# EAGLE library part BMP388 (library OffsetVentilatorLib)
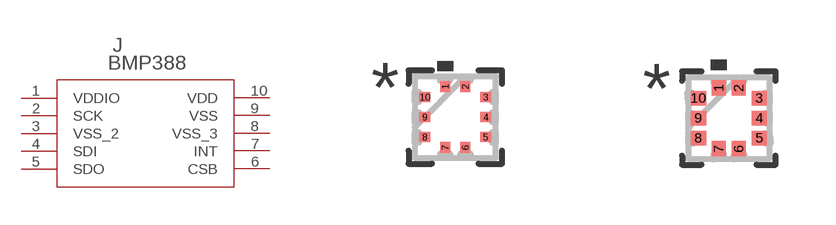
[diagram p0: symbol with the pads of QFN_BMP388; footprints QFN_BMP388, QFN_BMP388-M]

Designator prefix J

## BMP388 (BUILT_BY: EMA_Matt; COPYRIGHT: Copyright (C) 2018 Accelerated Designs. All rights reserved; MANUFACTURER_PART_NUMBER: BMP388; VENDOR: Bosch)  [QFN_BMP388]
1  VDDIO  pwr
2  SCK  pas
3  VSS_2  pas
4  SDI  pas
5  SDO  pas
6  CSB  pas
7  INT  pas
8  VSS_3  pas
9  VSS  pas
10  VDD  pwr

## BMP388QFN_BMP388-M (BUILT_BY: EMA_Matt; COPYRIGHT: Copyright (C) 2018 Accelerated Designs. All rights reserved; MANUFACTURER_PART_NUMBER: BMP388; VENDOR: Bosch)  [QFN_BMP388-M]
Pads as for QFN_BMP388

## BMP388QFN_BMP388-L (BUILT_BY: EMA_Matt; COPYRIGHT: Copyright (C) 2018 Accelerated Designs. All rights reserved; MANUFACTURER_PART_NUMBER: BMP388; VENDOR: Bosch)  [QFN_BMP388-L]
Pads as for QFN_BMP388

## Footprint QFN_BMP388 (pad centres in mm)
smd 0.254 x 0.279: 1 -0.25,0.762; 2 0.25,0.762; 6 0.25,-0.762; 7 -0.25,-0.762
smd 0.279 x 0.254: 3 0.762,0.5; 4 0.762,0; 5 0.762,-0.5; 8 -0.762,-0.5; 9 -0.762,0; 10 -0.762,0.5

## Footprint QFN_BMP388-M (pad centres in mm)
smd 0.356 x 0.381: 1 -0.25,0.762; 2 0.25,0.762; 6 0.25,-0.762; 7 -0.25,-0.762
smd 0.381 x 0.356: 3 0.762,0.5; 4 0.762,0; 5 0.762,-0.5; 8 -0.762,-0.5; 9 -0.762,0; 10 -0.762,0.5

## Footprint QFN_BMP388-L (pad centres in mm)
smd 0.152 x 0.178: 1 -0.25,0.762; 2 0.25,0.762; 6 0.25,-0.762; 7 -0.25,-0.762
smd 0.178 x 0.152: 3 0.762,0.5; 4 0.762,0; 5 0.762,-0.5; 8 -0.762,-0.5; 9 -0.762,0; 10 -0.762,0.5